# EAGLE library part LM3046 (library cliffords)
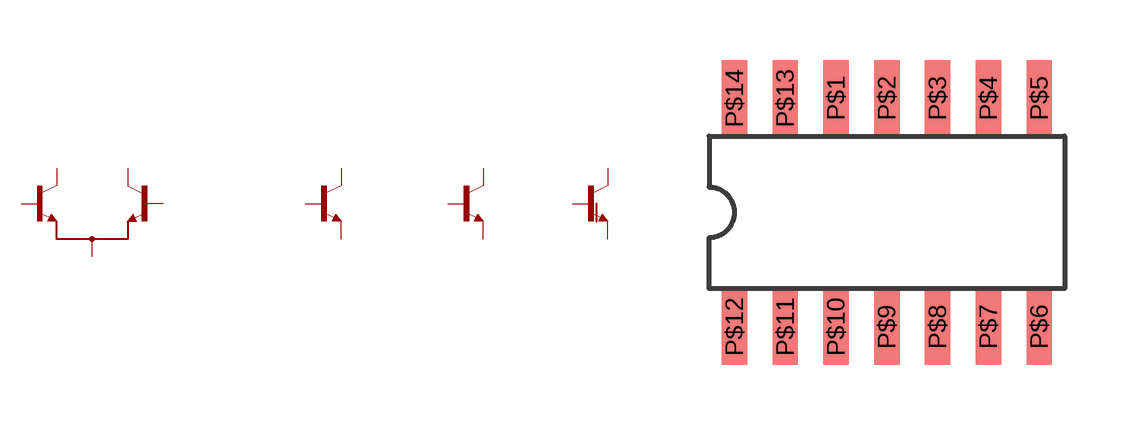
[diagram p0: symbol with the pads of MSOP14; footprint MSOP14]

Designator prefix -; gates PAIR=LM3046PAIR IQ1=LM3046SINGLE IQ2=LM3046SINGLE SQ1=LM3046SUBSTRATE

## LM3046  [MSOP14]
P$1  PAIR:C1  pas
P$2  PAIR:B1  pas
P$3  PAIR:E
P$4  PAIR:B2  pas
P$5  PAIR:C2  pas
P$6  IQ1:B  pas
P$7  IQ1:E  pas
P$8  IQ1:C  pas
P$9  IQ2:B  pas
P$10  IQ2:E  pas
P$11  IQ2:C  pas
P$12  SQ1:B  pas
P$13  SQ1:E  pas
P$14  SQ1:C  pas

## Footprint MSOP14 (pad centres in mm)
smd 0.635 x 1.905: P$1 -1.27,2.857; P$2 0,2.857; P$3 1.27,2.857; P$4 2.54,2.857; P$5 3.81,2.857; P$6 3.81,-2.857; P$7 2.54,-2.857; P$8 1.27,-2.857; P$9 0,-2.857; P$10 -1.27,-2.857; P$11 -2.54,-2.857; P$12 -3.81,-2.857; P$13 -2.54,2.857; P$14 -3.81,2.857